# EAGLE library part PCM1804 (library anykey)
Good but expensive TI ADC (24Bit, 192kHz, 108dB, balanced in, 5V analog, 3.3V digital)
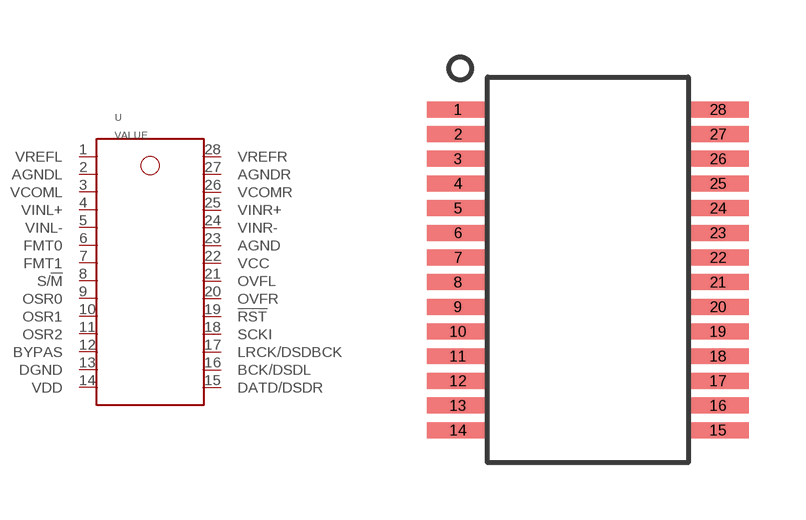
[diagram p5: symbol with the pads of SSOP28; footprint SSOP28]

Designator prefix -

## PCM1804  [SSOP28]
1  VREFL
2  AGNDL
3  VCOML
4  VINL+
5  VINL-
6  FMT0
7  FMT1
8  S/!M
9  OSR0
10  OSR1
11  OSR2
12  BYPAS
13  DGND
14  VDD
15  DATD/DSDR
16  BCK/DSDL
17  LRCK/DSDBCK
18  SCKI
19  !RST
20  OVFR
21  OVFL
22  VCC
23  AGND
24  VINR-
25  VINR+
26  VCOMR
27  AGNDR
28  VREFR

## Footprint SSOP28 (pad centres in mm)
28-SSOP package, 0.65mm pitch
smd 1.62 x 0.42: 1 -3.425,4.225; 2 -3.425,3.575; 3 -3.425,2.925; 4 -3.425,2.275; 5 -3.425,1.625; 6 -3.425,0.975; 7 -3.425,0.325; 8 -3.425,-0.325; 9 -3.425,-0.975; 10 -3.425,-1.625; 11 -3.425,-2.275; 12 -3.425,-2.925; 13 -3.425,-3.575; 14 -3.425,-4.225; 15 3.425,-4.225; 16 3.425,-3.575; 17 3.425,-2.925; 18 3.425,-2.275; 19 3.425,-1.625; 20 3.425,-0.975; 21 3.425,-0.325; 22 3.425,0.325; 23 3.425,0.975; 24 3.425,1.625; 25 3.425,2.275; 26 3.425,2.925; 27 3.425,3.575; 28 3.425,4.225